# EAGLE library part M37643(80PIN) (library renesas_mcu)
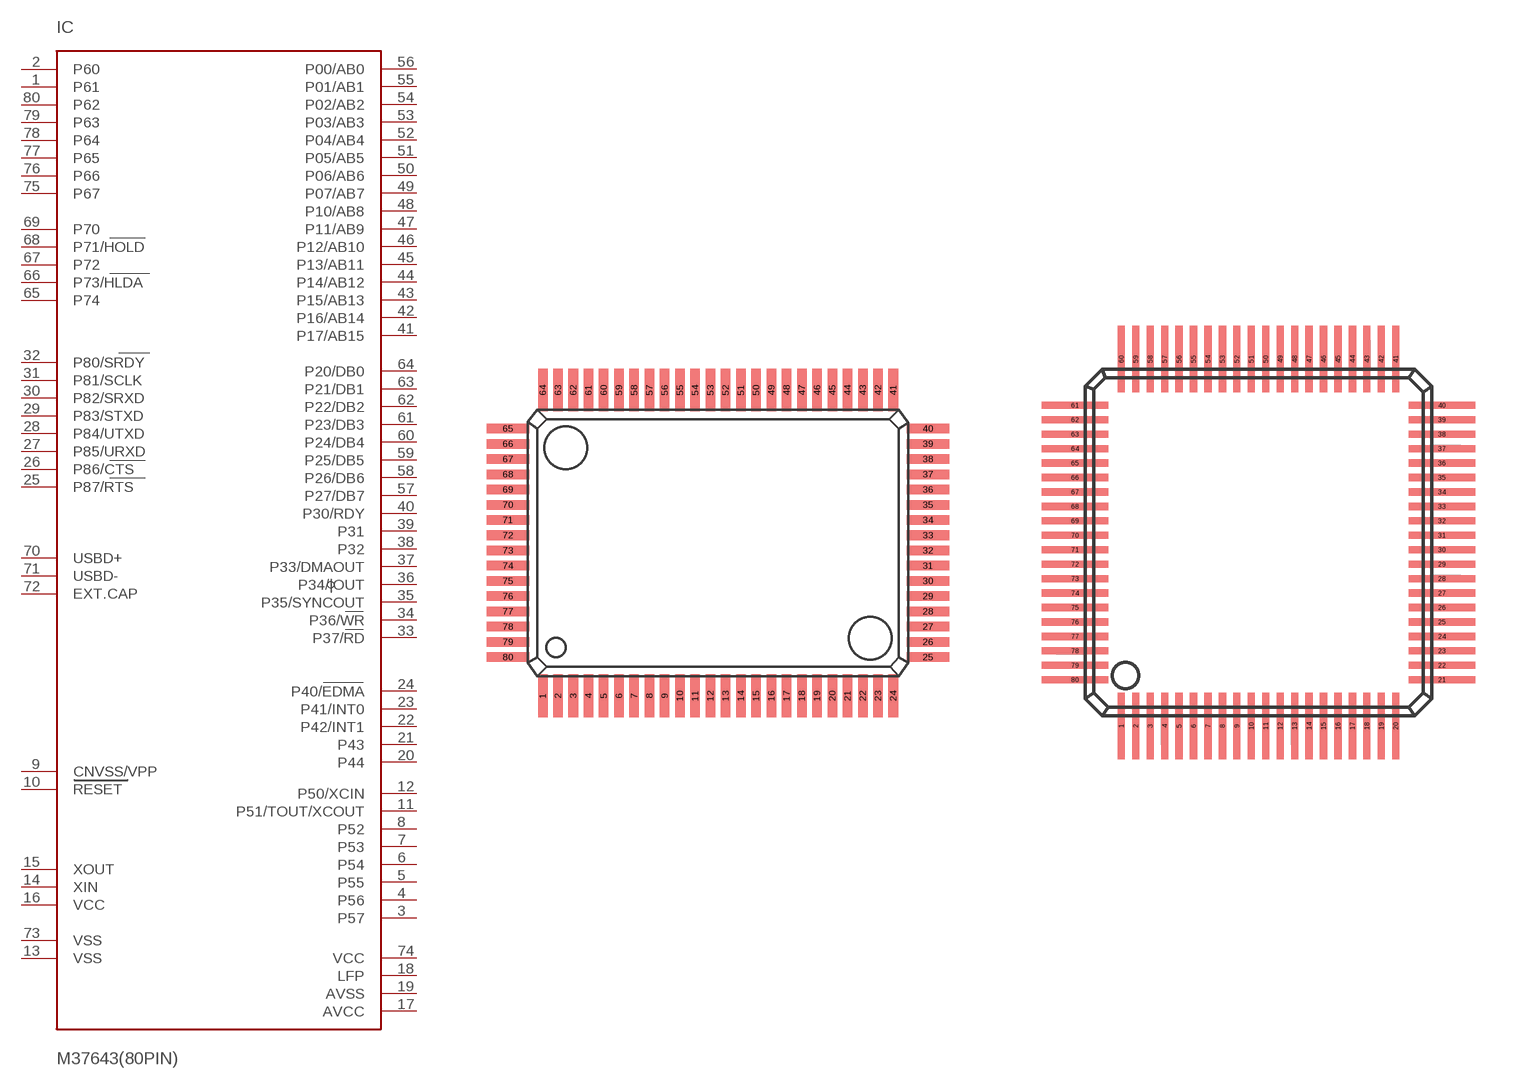
[diagram p63: symbol with the pads of 80P6N-A; footprints 80P6N-A, 80P6Q-A]

Designator prefix IC

## M37643(80PIN)FP  [80P6N-A]
1  P61
2  P60
3  P57
4  P56
5  P55  out
6  P54  out
7  P53  out
8  P52  out
9  CNVSS/VPP  in
10  RESET  in
11  P51/TOUT/XCOUT
12  P50/XCIN
13  VSS  in
14  XIN  in
15  XOUT  out
16  VCC  pwr
17  AVCC  in
18  LFP
19  AVSS  in
20  P44
21  P43
22  P42/INT1
23  P41/INT0
24  P40/EDMA
25  P87/RTS
26  P86/CTS
27  P85/URXD
28  P84/UTXD
29  P83/STXD  in
30  P82/SRXD
31  P81/SCLK
32  P80/SRDY
33  P37/RD
34  P36/WR
35  P35/SYNCOUT
36  P34/|OUT
37  P33/DMAOUT
38  P32
39  P31
40  P30/RDY
41  P17/AB15  out
42  P16/AB14  out
43  P15/AB13  out
44  P14/AB12  out
45  P13/AB11  out
46  P12/AB10  out
47  P11/AB9  out
48  P10/AB8  out
49  P07/AB7  out
50  P06/AB6  out
51  P05/AB5  out
52  P04/AB4  out
53  P03/AB3  out
54  P02/AB2  out
55  P01/AB1  out
56  P00/AB0  out
57  P27/DB7  out
58  P26/DB6  out
59  P25/DB5  out
60  P24/DB4  out
61  P23/DB3  out
62  P22/DB2  out
63  P21/DB1  out
64  P20/DB0  out
65  P74
66  P73/HLDA
67  P72
68  P71/HOLD
69  P70
70  USBD+
71  USBD-
72  EXT.CAP
73  VSS  pwr
74  VCC
75  P67
76  P66
77  P65
78  P64
79  P63
80  P62

## M37643(80PIN)HP  [80P6Q-A]
1  P57
2  P56
3  P55  out
4  P54  out
5  P53  out
6  P52  out
7  CNVSS/VPP  in
8  RESET  in
9  P51/TOUT/XCOUT
10  P50/XCIN
11  VSS  in
12  XIN  in
13  XOUT  out
14  VCC  pwr
15  AVCC  in
16  LFP
17  AVSS  in
18  P44
19  P43
20  P42/INT1
21  P41/INT0
22  P40/EDMA
23  P87/RTS
24  P86/CTS
25  P85/URXD
26  P84/UTXD
27  P83/STXD  in
28  P82/SRXD
29  P81/SCLK
30  P80/SRDY
31  P37/RD
32  P36/WR
33  P35/SYNCOUT
34  P34/|OUT
35  P33/DMAOUT
36  P32
37  P31
38  P30/RDY
39  P17/AB15  out
40  P16/AB14  out
41  P15/AB13  out
42  P14/AB12  out
43  P13/AB11  out
44  P12/AB10  out
45  P11/AB9  out
46  P10/AB8  out
47  P07/AB7  out
48  P06/AB6  out
49  P05/AB5  out
50  P04/AB4  out
51  P03/AB3  out
52  P02/AB2  out
53  P01/AB1  out
54  P00/AB0  out
55  P27/DB7  out
56  P26/DB6  out
57  P25/DB5  out
58  P24/DB4  out
59  P23/DB3  out
60  P22/DB2  out
61  P21/DB1  out
62  P20/DB0  out
63  P74
64  P73/HLDA
65  P72
66  P71/HOLD
67  P70
68  USBD+
69  USBD-
70  EXT.CAP
71  VSS  pwr
72  VCC
73  P67
74  P66
75  P65
76  P64
77  P63
78  P62
79  P61
80  P60

## Footprint 80P6N-A (pad centres in mm)
smd 0.5 x 2.25: 1 -9.2,-8.025; 2 -8.4,-8.025; 3 -7.6,-8.025; 4 -6.8,-8.025; 5 -6,-8.025; 6 -5.2,-8.025; 7 -4.4,-8.025; 8 -3.6,-8.025; 9 -2.8,-8.025; 10 -2,-8.025; 11 -1.2,-8.025; 12 -0.4,-8.025; 13 0.4,-8.025; 14 1.2,-8.025; 15 2,-8.025; 16 2.8,-8.025; 17 3.6,-8.025; 18 4.4,-8.025; 19 5.2,-8.025; 20 6,-8.025; 21 6.8,-8.025; 22 7.6,-8.025; 23 8.4,-8.025; 24 9.2,-8.025; 41 9.2,8.025; 42 8.4,8.025; 43 7.6,8.025; 44 6.8,8.025; 45 6,8.025; 46 5.2,8.025; 47 4.4,8.025; 48 3.6,8.025; 49 2.8,8.025; 50 2,8.025; 51 1.2,8.025; 52 0.4,8.025; 53 -0.4,8.025; 54 -1.2,8.025; 55 -2,8.025; 56 -2.8,8.025; 57 -3.6,8.025; 58 -4.4,8.025; 59 -5.2,8.025; 60 -6,8.025; 61 -6.8,8.025; 62 -7.6,8.025; 63 -8.4,8.025; 64 -9.2,8.025
smd 2.25 x 0.5: 25 11.025,-6; 26 11.025,-5.2; 27 11.025,-4.4; 28 11.025,-3.6; 29 11.025,-2.8; 30 11.025,-2; 31 11.025,-1.2; 32 11.025,-0.4; 33 11.025,0.4; 34 11.025,1.2; 35 11.025,2; 36 11.025,2.8; 37 11.025,3.6; 38 11.025,4.4; 39 11.025,5.2; 40 11.025,6; 65 -11.025,6; 66 -11.025,5.2; 67 -11.025,4.4; 68 -11.025,3.6; 69 -11.025,2.8; 70 -11.025,2; 71 -11.025,1.2; 72 -11.025,0.4; 73 -11.025,-0.4; 74 -11.025,-1.2; 75 -11.025,-2; 76 -11.025,-2.8; 77 -11.025,-3.6; 78 -11.025,-4.4; 79 -11.025,-5.2; 80 -11.025,-6

## Footprint 80P6Q-A (pad centres in mm)
smd 0.25 x 2.3: 1 -4.75,-6.35; 2 -4.25,-6.35; 3 -3.75,-6.35; 4 -3.25,-6.35; 5 -2.75,-6.35; 6 -2.25,-6.35; 7 -1.75,-6.35; 8 -1.25,-6.35; 9 -0.75,-6.35; 10 -0.25,-6.35; 11 0.25,-6.35; 12 0.75,-6.35; 13 1.25,-6.35; 14 1.75,-6.35; 15 2.25,-6.35; 16 2.75,-6.35; 17 3.25,-6.35; 18 3.75,-6.35; 19 4.25,-6.35; 20 4.75,-6.35; 41 4.75,6.35; 42 4.25,6.35; 43 3.75,6.35; 44 3.25,6.35; 45 2.75,6.35; 46 2.25,6.35; 47 1.75,6.35; 48 1.25,6.35; 49 0.75,6.35; 50 0.25,6.35; 51 -0.25,6.35; 52 -0.75,6.35; 53 -1.25,6.35; 54 -1.75,6.35; 55 -2.25,6.35; 56 -2.75,6.35; 57 -3.25,6.35; 58 -3.75,6.35; 59 -4.25,6.35; 60 -4.75,6.35
smd 2.3 x 0.25: 21 6.35,-4.75; 22 6.35,-4.25; 23 6.35,-3.75; 24 6.35,-3.25; 25 6.35,-2.75; 26 6.35,-2.25; 27 6.35,-1.75; 28 6.35,-1.25; 29 6.35,-0.75; 30 6.35,-0.25; 31 6.35,0.25; 32 6.35,0.75; 33 6.35,1.25; 34 6.35,1.75; 35 6.35,2.25; 36 6.35,2.75; 37 6.35,3.25; 38 6.35,3.75; 39 6.35,4.25; 40 6.35,4.75; 61 -6.35,4.75; 62 -6.35,4.25; 63 -6.35,3.75; 64 -6.35,3.25; 65 -6.35,2.75; 66 -6.35,2.25; 67 -6.35,1.75; 68 -6.35,1.25; 69 -6.35,0.75; 70 -6.35,0.25; 71 -6.35,-0.25; 72 -6.35,-0.75; 73 -6.35,-1.25; 74 -6.35,-1.75; 75 -6.35,-2.25; 76 -6.35,-2.75; 77 -6.35,-3.25; 78 -6.35,-3.75; 79 -6.35,-4.25; 80 -6.35,-4.75